# Altium footprint library PCB - CRYSTALS - ECS ECS-2520MV.PCBLIB: 1 footprints
Each footprint in its own frame and in the unit in brackets; x right, y up, seen from the top. Pads: shape width x height; smd on the part's side, far side on the other; paste and mask are expansions set on the pad; w line width, h text height; cw(c..) or ccw(c..) is an arc to the next point about the centre after c.
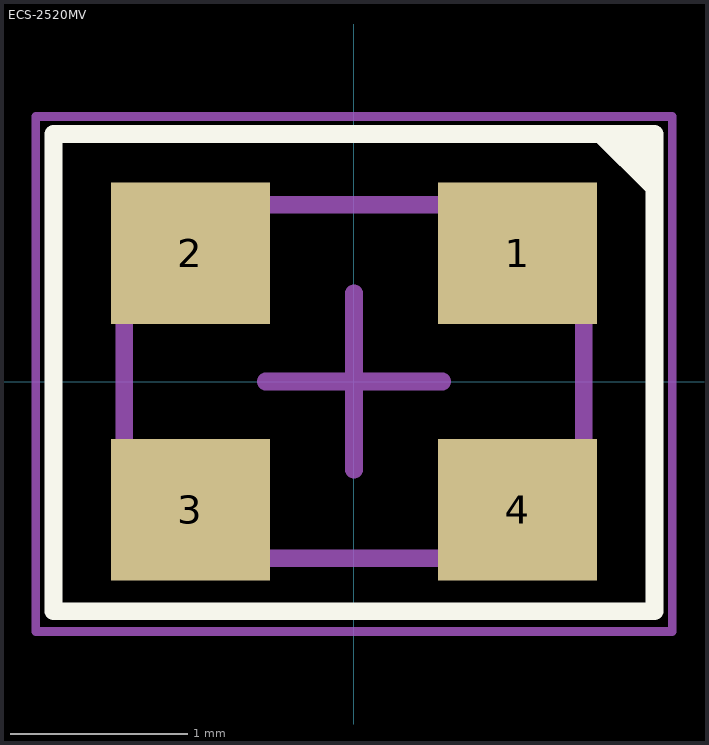
[diagram p0: the footprint, top view; thin cyan lines are the x and y axes]

## ECS-2520MV [mm] "Crystal, 4-Leads, Body 2.00x2.50mm, IPC Medium Density"
height 0.9
pads (4):
  rect 0.9x0.8 smd mask+0.05: 1(0.925,0.725) 2(-0.925,0.725) 3(-0.925,-0.725) 4(0.925,-0.725)
Top Overlay:
  region: 1.7,1.413 1.7,1.025 1.311,1.413
  lines w0.1: -1.7,-1.3 -1.7,1.4 1.7,1.4 1.7,-1.3 -1.7,-1.3
Mechanical 13:
  lines w0.1: -1.3,-1 -1.3,1 1.3,1 1.3,-1 -1.3,-1
Mechanical 15:
  lines w0.05: -1.8,-1.415 -1.8,1.5 1.8,1.5 1.8,-1.415 -1.8,-1.415
  lines w0.1: -0.5,0 0.5,0 ; 0,-0.5 0,0.5
3D body "ECS-2520MV.STEP": height 0.9, standoff 0, extent -1.25,-1 1.25,1